# Altium integrated library WE-CBF (rev24a).IntLib: 180 symbols (part 3 of 4)
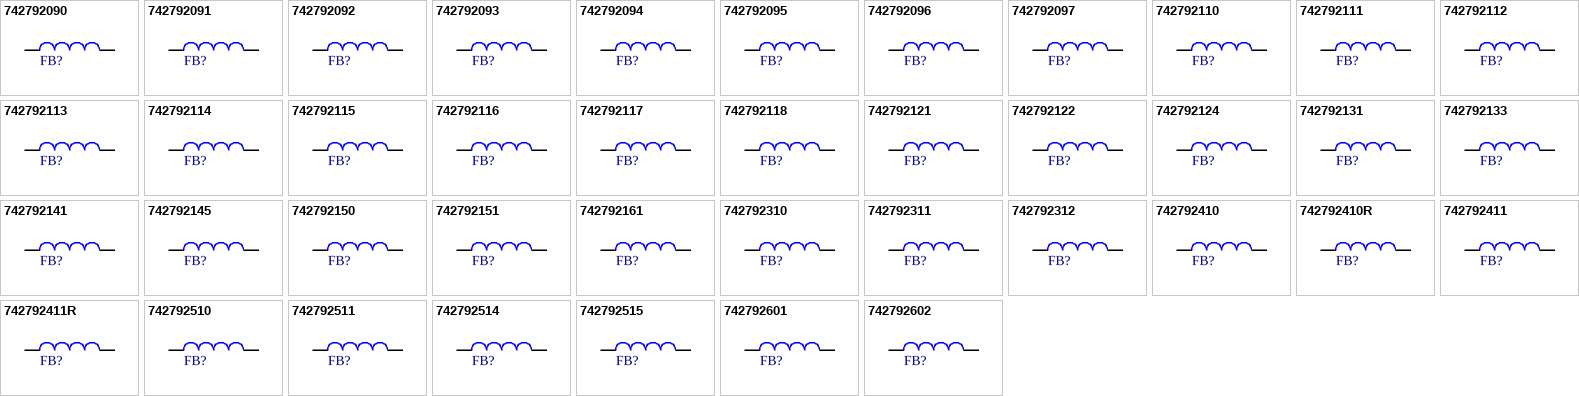
[diagram p6: symbols 742792090 to 742792602]

## 742792311
designator FB?, comment 52Ohm  (value not drawn)
WE-CBF SMT EMI Suppression Ferrite Bead, size 1210, 52Ohm, 3A; Manufacturer Part Number: 742792311; Manufacturer: Wurth Elektronik; Case/Size Code: 1210; DC Resistance Max: 0.05Ohm; Impedance Max: 90Ohm; Impedance Max Test Condition: 1000MHz; Type: High Current; Category: Ferrites for PCB Assembly; Match Code: WE-CBF; ComponentLink1Description: Website Link; ComponentLink1URL: https://www.we-online.com/redexpert/article/742792311?ad; ComponentLink2Description: Datasheet Link; ComponentLink2URL: https://www.we-online.com/redexpert/spec/742792311?ad; Mount: Surface Mount; Operating Temperature Max: 125°C; Operating Temperature Min: -55°C; Packaging: Tape and Reel; Length: 3.2mm; Width: 2.5mm; Height: 1.3mm; Impedance @100MHz: 52Ohm; Rated Current: 3A
footprint WE-CBF_1210_L3.2W2.5H1.3_HC
simulation model 1210_742792311_52ohm
pins: 1, 2

## 742792312
designator FB?, comment 65Ohm  (value not drawn)
WE-CBF SMT EMI Suppression Ferrite Bead, size 1210, 65Ohm, 3A; Manufacturer Part Number: 742792312; Manufacturer: Wurth Elektronik; Case/Size Code: 1210; DC Resistance Max: 0.03Ohm; Impedance Max: 110Ohm; Impedance Max Test Condition: 1000MHz; Type: High Current; Category: Ferrites for PCB Assembly; Match Code: WE-CBF; ComponentLink1Description: Website Link; ComponentLink1URL: https://www.we-online.com/redexpert/article/742792312?ad; ComponentLink2Description: Datasheet Link; ComponentLink2URL: https://www.we-online.com/redexpert/spec/742792312?ad; Mount: Surface Mount; Operating Temperature Max: 125°C; Operating Temperature Min: -55°C; Packaging: Tape and Reel; Length: 3.2mm; Width: 2.5mm; Height: 1.3mm; Impedance @100MHz: 65Ohm; Rated Current: 3A
footprint WE-CBF_1210_L3.2W2.5H1.3_HC
simulation model 1210_742792312_65ohm
pins: 1, 2

## 742792410
designator FB?, comment 60Ohm  (value not drawn)
WE-CBF SMT EMI Suppression Ferrite Bead, size 1806, 60Ohm, 6A; Manufacturer Part Number: 742792410; Manufacturer: Wurth Elektronik; Case/Size Code: 1806; DC Resistance Max: 0.01Ohm; Impedance Max: 120Ohm; Impedance Max Test Condition: 1000MHz; Type: High Current; Category: Ferrites for PCB Assembly; Match Code: WE-CBF; ComponentLink1Description: Website Link; ComponentLink1URL: https://www.we-online.com/redexpert/article/742792410?ad; ComponentLink2Description: Datasheet Link; ComponentLink2URL: https://www.we-online.com/redexpert/spec/742792410?ad; Mount: Surface Mount; Operating Temperature Max: 125°C; Operating Temperature Min: -55°C; Packaging: Tape and Reel; Length: 4.5mm; Width: 1.6mm; Height: 1.6mm; Impedance @100MHz: 60Ohm; Rated Current: 6A
footprint WE-CBF_1806_L4.5W1.6H1.6_HC
simulation model 1806_742792410_60ohm
pins: 1, 2

## 742792410R
designator FB?, comment 60Ohm  (value not drawn)
WE-CBF SMT EMI Suppression Ferrite Bead, size 1806, 60Ohm, 6A; Manufacturer Part Number: 742792410R; Manufacturer: Wurth Elektronik; Case/Size Code: 1806; DC Resistance Max: 0.01Ohm; Impedance Max: 120Ohm; Impedance Max Test Condition: 1000MHz; Type: High Current; Category: Ferrites for PCB Assembly; Match Code: WE-CBF; ComponentLink1Description: Website Link; ComponentLink1URL: https://www.we-online.com/redexpert/article/742792410R?ad; ComponentLink2Description: Datasheet Link; ComponentLink2URL: https://www.we-online.com/redexpert/spec/742792410R?ad; Mount: Surface Mount; Operating Temperature Max: 125°C; Operating Temperature Min: -55°C; Packaging: Tape and Reel; Length: 4.5mm; Width: 1.6mm; Height: 1.6mm; Impedance @100MHz: 60Ohm; Rated Current: 6A
footprint WE-CBF_1806_L4.5W1.6H1.6_HC
pins: 1, 2

## 742792411
designator FB?, comment 80Ohm  (value not drawn)
WE-CBF SMT EMI Suppression Ferrite Bead, size 1806, 80Ohm, 3A; Manufacturer Part Number: 742792411; Manufacturer: Wurth Elektronik; Case/Size Code: 1806; DC Resistance Max: 0.04Ohm; Impedance Max: 140Ohm; Impedance Max Test Condition: 1000MHz; Type: High Current; Category: Ferrites for PCB Assembly; Match Code: WE-CBF; ComponentLink1Description: Website Link; ComponentLink1URL: https://www.we-online.com/redexpert/article/742792411?ad; ComponentLink2Description: Datasheet Link; ComponentLink2URL: https://www.we-online.com/redexpert/spec/742792411?ad; Mount: Surface Mount; Operating Temperature Max: 125°C; Operating Temperature Min: -55°C; Packaging: Tape and Reel; Length: 4.5mm; Width: 1.6mm; Height: 1.6mm; Impedance @100MHz: 80Ohm; Rated Current: 3A
footprint WE-CBF_1806_L4.5W1.6H1.6_HC
simulation model 1806_742792411_80ohm
pins: 1, 2

## 742792411R
designator FB?, comment 80Ohm  (value not drawn)
WE-CBF SMT EMI Suppression Ferrite Bead, size 1806, 80Ohm, 3A; Manufacturer Part Number: 742792411R; Manufacturer: Wurth Elektronik; Case/Size Code: 1806; DC Resistance Max: 0.04Ohm; Impedance Max: 140Ohm; Impedance Max Test Condition: 1000MHz; Type: High Current; Category: Ferrites for PCB Assembly; Match Code: WE-CBF; ComponentLink1Description: Website Link; ComponentLink1URL: https://www.we-online.com/redexpert/article/742792411R?ad; ComponentLink2Description: Datasheet Link; ComponentLink2URL: https://www.we-online.com/redexpert/spec/742792411R?ad; Mount: Surface Mount; Operating Temperature Max: 125°C; Operating Temperature Min: -55°C; Packaging: Tape and Reel; Length: 4.5mm; Width: 1.6mm; Height: 1.6mm; Impedance @100MHz: 80Ohm; Rated Current: 3A
footprint WE-CBF_1806_L4.5W1.6H1.6_HC
pins: 1, 2

## 742792510
designator FB?, comment 70Ohm  (value not drawn)
WE-CBF SMT EMI Suppression Ferrite Bead, size 1812, 70Ohm, 6A; Manufacturer Part Number: 742792510; Manufacturer: Wurth Elektronik; Case/Size Code: 1812; DC Resistance Max: 0.03Ohm; Impedance Max: 120Ohm; Impedance Max Test Condition: 1000MHz; Type: High Current; Category: Ferrites for PCB Assembly; Match Code: WE-CBF; ComponentLink1Description: Website Link; ComponentLink1URL: https://www.we-online.com/redexpert/article/742792510?ad; ComponentLink2Description: Datasheet Link; ComponentLink2URL: https://www.we-online.com/redexpert/spec/742792510?ad; Mount: Surface Mount; Operating Temperature Max: 125°C; Operating Temperature Min: -55°C; Packaging: Tape and Reel; Length: 4.5mm; Width: 3.2mm; Height: 1.5mm; Impedance @100MHz: 70Ohm; Rated Current: 6A
footprint WE-CBF_1812_L4.5W3.2H1.5_HC
simulation model 1812_742792510_70ohm
pins: 1, 2

## 742792511
designator FB?, comment 120Ohm  (value not drawn)
WE-CBF SMT EMI Suppression Ferrite Bead, size 1812, 120Ohm, 3A; Manufacturer Part Number: 742792511; Manufacturer: Wurth Elektronik; Case/Size Code: 1812; DC Resistance Max: 0.05Ohm; Impedance Max: 190Ohm; Impedance Max Test Condition: 600MHz; Type: High Current; Category: Ferrites for PCB Assembly; Match Code: WE-CBF; ComponentLink1Description: Website Link; ComponentLink1URL: https://www.we-online.com/redexpert/article/742792511?ad; ComponentLink2Description: Datasheet Link; ComponentLink2URL: https://www.we-online.com/redexpert/spec/742792511?ad; Mount: Surface Mount; Operating Temperature Max: 125°C; Operating Temperature Min: -55°C; Packaging: Tape and Reel; Length: 4.5mm; Width: 3.2mm; Height: 1.5mm; Impedance @100MHz: 120Ohm; Rated Current: 3A
footprint WE-CBF_1812_L4.5W3.2H1.5_HC
simulation model 1812_742792511_120ohm
pins: 1, 2

## 742792514
designator FB?, comment 600Ohm  (value not drawn)
WE-CBF SMT EMI Suppression Ferrite Bead, size 1812, 600Ohm, 3A; Manufacturer Part Number: 742792514; Manufacturer: Wurth Elektronik; Case/Size Code: 1812; DC Resistance Max: 0.04Ohm; Impedance Max: 900Ohm; Impedance Max Test Condition: 65MHz; Type: High Current; Category: Ferrites for PCB Assembly; Match Code: WE-CBF; ComponentLink1Description: Website Link; ComponentLink1URL: https://www.we-online.com/redexpert/article/742792514?ad; ComponentLink2Description: Datasheet Link; ComponentLink2URL: https://www.we-online.com/redexpert/spec/742792514?ad; Mount: Surface Mount; Operating Temperature Max: 125°C; Operating Temperature Min: -55°C; Packaging: Tape and Reel; Length: 4.5mm; Width: 3.2mm; Height: 1.5mm; Impedance @100MHz: 600Ohm; Rated Current: 3A
footprint WE-CBF_1812_L4.5W3.2H1.5_HC
simulation model 1812_742792514_600ohm
pins: 1, 2

## 742792515
designator FB?, comment 785Ohm  (value not drawn)
WE-CBF SMT EMI Suppression Ferrite Bead, size 1812, 785Ohm, 3A; Manufacturer Part Number: 742792515; Manufacturer: Wurth Elektronik; Case/Size Code: 1812; DC Resistance Max: 0.05Ohm; Impedance Max: 1300Ohm; Impedance Max Test Condition: 60MHz; Type: High Current; Category: Ferrites for PCB Assembly; Match Code: WE-CBF; ComponentLink1Description: Website Link; ComponentLink1URL: https://www.we-online.com/redexpert/article/742792515?ad; ComponentLink2Description: Datasheet Link; ComponentLink2URL: https://www.we-online.com/redexpert/spec/742792515?ad; Mount: Surface Mount; Operating Temperature Max: 125°C; Operating Temperature Min: -55°C; Packaging: Tape and Reel; Length: 4.5mm; Width: 3.2mm; Height: 1.5mm; Impedance @100MHz: 785Ohm; Rated Current: 3A
footprint WE-CBF_1812_L4.5W3.2H1.5_HC
simulation model 1812_742792515_785ohm
pins: 1, 2

## 742792601
designator FB?, comment 30Ohm  (value not drawn)
WE-CBF SMT EMI Suppression Ferrite Bead, size 0603, 30Ohm, 1A; Manufacturer Part Number: 742792601; Manufacturer: Wurth Elektronik; Case/Size Code: 0603; DC Resistance Max: 0.03Ohm; Impedance Max: 65Ohm; Impedance Max Test Condition: 1000MHz; Type: High Current; Category: Ferrites for PCB Assembly; Match Code: WE-CBF; ComponentLink1Description: Website Link; ComponentLink1URL: https://www.we-online.com/redexpert/article/742792601?ad; ComponentLink2Description: Datasheet Link; ComponentLink2URL: https://www.we-online.com/redexpert/spec/742792601?ad; Mount: Surface Mount; Operating Temperature Max: 125°C; Operating Temperature Min: -55°C; Packaging: Tape and Reel; Length: 1.6mm; Width: 0.8mm; Height: 0.8mm; Impedance @100MHz: 30Ohm; Rated Current: 1A
footprint WE-CBF_0603_L1.6W0.8H0.8_HC
simulation model 0603_742792601_30ohm
pins: 1, 2

## 742792602
designator FB?, comment 60Ohm  (value not drawn)
WE-CBF SMT EMI Suppression Ferrite Bead, size 0603, 60Ohm, 3A; Manufacturer Part Number: 742792602; Manufacturer: Wurth Elektronik; Case/Size Code: 0603; DC Resistance Max: 0.04Ohm; Impedance Max: 110Ohm; Impedance Max Test Condition: 600MHz; Type: High Current; Category: Ferrites for PCB Assembly; Match Code: WE-CBF; ComponentLink1Description: Website Link; ComponentLink1URL: https://www.we-online.com/redexpert/article/742792602?ad; ComponentLink2Description: Datasheet Link; ComponentLink2URL: https://www.we-online.com/redexpert/spec/742792602?ad; Mount: Surface Mount; Operating Temperature Max: 125°C; Operating Temperature Min: -55°C; Packaging: Tape and Reel; Length: 1.6mm; Width: 0.8mm; Height: 0.8mm; Impedance @100MHz: 60Ohm; Rated Current: 3A
footprint WE-CBF_0603_L1.6W0.8H0.8_HC
simulation model 0603_742792602_60ohm
pins: 1, 2

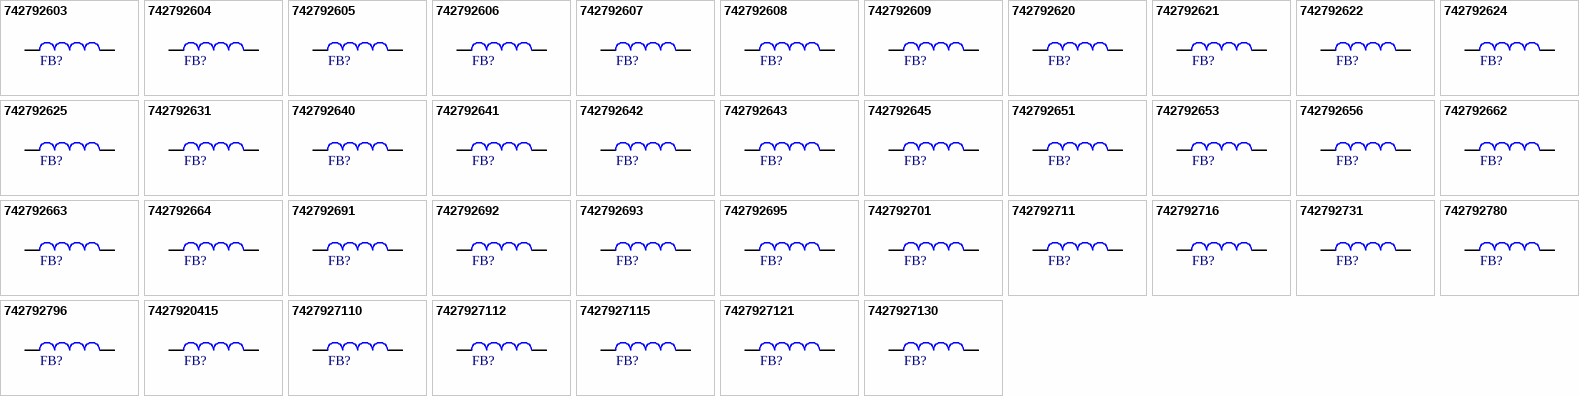
[diagram p3: symbols 742792603 to 7427927130]

## 742792603
designator FB?, comment 28Ohm  (value not drawn)
WE-CBF SMT EMI Suppression Ferrite Bead, size 0603, 28Ohm, 4A; Manufacturer Part Number: 742792603; Manufacturer: Wurth Elektronik; Case/Size Code: 0603; DC Resistance Max: 0.03Ohm; Impedance Max: 45Ohm; Impedance Max Test Condition: 1000MHz; Type: High Current; Category: Ferrites for PCB Assembly; Match Code: WE-CBF; ComponentLink1Description: Website Link; ComponentLink1URL: https://www.we-online.com/redexpert/article/742792603?ad; ComponentLink2Description: Datasheet Link; ComponentLink2URL: https://www.we-online.com/redexpert/spec/742792603?ad; Mount: Surface Mount; Operating Temperature Max: 125°C; Operating Temperature Min: -55°C; Packaging: Tape and Reel; Length: 1.6mm; Width: 0.8mm; Height: 0.8mm; Impedance @100MHz: 28Ohm; Rated Current: 4A
footprint WE-CBF_0603_L1.6W0.8H0.8_HC
simulation model 0603_742792603_28ohm
pins: 1, 2

## 742792604
designator FB?, comment 22Ohm  (value not drawn)
WE-CBF SMT EMI Suppression Ferrite Bead, size 0603, 22Ohm, 1A; Manufacturer Part Number: 742792604; Manufacturer: Wurth Elektronik; Case/Size Code: 0603; DC Resistance Max: 0.05Ohm; Impedance Max: 40Ohm; Impedance Max Test Condition: 1000MHz; Type: High Current; Category: Ferrites for PCB Assembly; Match Code: WE-CBF; ComponentLink1Description: Website Link; ComponentLink1URL: https://www.we-online.com/redexpert/article/742792604?ad; ComponentLink2Description: Datasheet Link; ComponentLink2URL: https://www.we-online.com/redexpert/spec/742792604?ad; Mount: Surface Mount; Operating Temperature Max: 125°C; Operating Temperature Min: -55°C; Packaging: Tape and Reel; Length: 1.6mm; Width: 0.8mm; Height: 0.8mm; Impedance @100MHz: 22Ohm; Rated Current: 1A
footprint WE-CBF_0603_L1.6W0.8H0.8_HC
simulation model 0603_742792604_22ohm
pins: 1, 2

## 742792605
designator FB?, comment 33Ohm  (value not drawn)
WE-CBF SMT EMI Suppression Ferrite Bead, size 0603, 33Ohm, 2.2A; Manufacturer Part Number: 742792605; Manufacturer: Wurth Elektronik; Case/Size Code: 0603; DC Resistance Max: 0.1Ohm; Impedance Max: 50Ohm; Impedance Max Test Condition: 1000MHz; Type: High Speed; Category: Ferrites for PCB Assembly; Match Code: WE-CBF; ComponentLink1Description: Website Link; ComponentLink1URL: https://www.we-online.com/redexpert/article/742792605?ad; ComponentLink2Description: Datasheet Link; ComponentLink2URL: https://www.we-online.com/redexpert/spec/742792605?ad; Mount: Surface Mount; Operating Temperature Max: 125°C; Operating Temperature Min: -55°C; Packaging: Tape and Reel; Length: 1.6mm; Width: 0.8mm; Height: 0.8mm; Impedance @100MHz: 33Ohm; Rated Current: 2.2A
footprint WE-CBF_0603_L1.6W0.8H0.8_HS/WB
simulation model 0603_742792605_33ohm
pins: 1, 2

## 742792606
designator FB?, comment 120Ohm  (value not drawn)
WE-CBF SMT EMI Suppression Ferrite Bead, size 0603, 120Ohm, 1.6A; Manufacturer Part Number: 742792606; Manufacturer: Wurth Elektronik; Case/Size Code: 0603; DC Resistance Max: 0.35Ohm; Impedance Max: 388Ohm; Impedance Max Test Condition: 550MHz; Type: High Speed; Category: Ferrites for PCB Assembly; Match Code: WE-CBF; ComponentLink1Description: Website Link; ComponentLink1URL: https://www.we-online.com/redexpert/article/742792606?ad; ComponentLink2Description: Datasheet Link; ComponentLink2URL: https://www.we-online.com/redexpert/spec/742792606?ad; Mount: Surface Mount; Operating Temperature Max: 125°C; Operating Temperature Min: -55°C; Packaging: Tape and Reel; Length: 1.6mm; Width: 0.8mm; Height: 0.8mm; Impedance @100MHz: 120Ohm; Rated Current: 1.6A
footprint WE-CBF_0603_L1.6W0.8H0.8_HS/WB
simulation model 0603_742792606_120ohm
pins: 1, 2

## 742792607
designator FB?, comment 68Ohm  (value not drawn)
WE-CBF SMT EMI Suppression Ferrite Bead, size 0603, 68Ohm, 1.7A; Manufacturer Part Number: 742792607; Manufacturer: Wurth Elektronik; Case/Size Code: 0603; DC Resistance Max: 0.3Ohm; Impedance Max: 284Ohm; Impedance Max Test Condition: 800MHz; Type: High Speed; Category: Ferrites for PCB Assembly; Match Code: WE-CBF; ComponentLink1Description: Website Link; ComponentLink1URL: https://www.we-online.com/redexpert/article/742792607?ad; ComponentLink2Description: Datasheet Link; ComponentLink2URL: https://www.we-online.com/redexpert/spec/742792607?ad; Mount: Surface Mount; Operating Temperature Max: 125°C; Operating Temperature Min: -55°C; Packaging: Tape and Reel; Length: 1.6mm; Width: 0.8mm; Height: 0.8mm; Impedance @100MHz: 68Ohm; Rated Current: 1.7A
footprint WE-CBF_0603_L1.6W0.8H0.8_HS/WB
simulation model 0603_742792607_68ohm
pins: 1, 2

## 742792608
designator FB?, comment 47Ohm  (value not drawn)
WE-CBF SMT EMI Suppression Ferrite Bead, size 0603, 47Ohm, 1.3A; Manufacturer Part Number: 742792608; Manufacturer: Wurth Elektronik; Case/Size Code: 0603; DC Resistance Max: 0.1Ohm; Impedance Max: 75Ohm; Impedance Max Test Condition: 1000MHz; Type: High Speed; Category: Ferrites for PCB Assembly; Match Code: WE-CBF; ComponentLink1Description: Website Link; ComponentLink1URL: https://www.we-online.com/redexpert/article/742792608?ad; ComponentLink2Description: Datasheet Link; ComponentLink2URL: https://www.we-online.com/redexpert/spec/742792608?ad; Mount: Surface Mount; Operating Temperature Max: 125°C; Operating Temperature Min: -55°C; Packaging: Tape and Reel; Length: 1.6mm; Width: 0.8mm; Height: 0.8mm; Impedance @100MHz: 47Ohm; Rated Current: 1.3A
footprint WE-CBF_0603_L1.6W0.8H0.8_HS/WB
simulation model 0603_742792608_47ohm
pins: 1, 2

## 742792609
designator FB?, comment 30Ohm  (value not drawn)
WE-CBF SMT EMI Suppression Ferrite Bead, size 0603, 30Ohm, 3A; Manufacturer Part Number: 742792609; Manufacturer: Wurth Elektronik; Case/Size Code: 0603; DC Resistance Max: 0.04Ohm; Impedance Max: 40Ohm; Impedance Max Test Condition: 1000MHz; Type: High Current; Category: Ferrites for PCB Assembly; Match Code: WE-CBF; ComponentLink1Description: Website Link; ComponentLink1URL: https://www.we-online.com/redexpert/article/742792609?ad; ComponentLink2Description: Datasheet Link; ComponentLink2URL: https://www.we-online.com/redexpert/spec/742792609?ad; Mount: Surface Mount; Operating Temperature Max: 125°C; Operating Temperature Min: -55°C; Packaging: Tape and Reel; Length: 1.6mm; Width: 0.8mm; Height: 0.8mm; Impedance @100MHz: 30Ohm; Rated Current: 3A
footprint WE-CBF_0603_L1.6W0.8H0.8_HC
simulation model 0603_742792609_30ohm
pins: 1, 2

## 742792620
designator FB?, comment 100Ohm  (value not drawn)
WE-CBF SMT EMI Suppression Ferrite Bead, size 0603, 100Ohm, 1.65A; Manufacturer Part Number: 742792620; Manufacturer: Wurth Elektronik; Case/Size Code: 0603; DC Resistance Max: 0.15Ohm; Impedance Max: 125Ohm; Impedance Max Test Condition: 450MHz; Type: Wide Band; Category: Ferrites for PCB Assembly; Match Code: WE-CBF; ComponentLink1Description: Website Link; ComponentLink1URL: https://www.we-online.com/redexpert/article/742792620?ad; ComponentLink2Description: Datasheet Link; ComponentLink2URL: https://www.we-online.com/redexpert/spec/742792620?ad; Mount: Surface Mount; Operating Temperature Max: 125°C; Operating Temperature Min: -55°C; Packaging: Tape and Reel; Length: 1.6mm; Width: 0.8mm; Height: 0.8mm; Impedance @100MHz: 100Ohm; Rated Current: 1.65A
footprint WE-CBF_0603_L1.6W0.8H0.8_HS/WB
simulation model 0603_742792620_100ohm
pins: 1, 2

## 742792621
designator FB?, comment 140Ohm  (value not drawn)
WE-CBF SMT EMI Suppression Ferrite Bead, size 0603, 140Ohm, 1.25A; Manufacturer Part Number: 742792621; Manufacturer: Wurth Elektronik; Case/Size Code: 0603; DC Resistance Max: 0.2Ohm; Impedance Max: 430Ohm; Impedance Max Test Condition: 550MHz; Type: High Speed; Category: Ferrites for PCB Assembly; Match Code: WE-CBF; ComponentLink1Description: Website Link; ComponentLink1URL: https://www.we-online.com/redexpert/article/742792621?ad; ComponentLink2Description: Datasheet Link; ComponentLink2URL: https://www.we-online.com/redexpert/spec/742792621?ad; Mount: Surface Mount; Operating Temperature Max: 125°C; Operating Temperature Min: -55°C; Packaging: Tape and Reel; Length: 1.6mm; Width: 0.8mm; Height: 0.8mm; Impedance @100MHz: 140Ohm; Rated Current: 1.25A
footprint WE-CBF_0603_L1.6W0.8H0.8_HS/WB
simulation model 0603_742792621_140ohm
pins: 1, 2

## 742792622
designator FB?, comment 180Ohm  (value not drawn)
WE-CBF SMT EMI Suppression Ferrite Bead, size 0603, 180Ohm, 1.5A; Manufacturer Part Number: 742792622; Manufacturer: Wurth Elektronik; Case/Size Code: 0603; DC Resistance Max: 0.3Ohm; Impedance Max: 283Ohm; Impedance Max Test Condition: 410MHz; Type: Wide Band; Category: Ferrites for PCB Assembly; Match Code: WE-CBF; ComponentLink1Description: Website Link; ComponentLink1URL: https://www.we-online.com/redexpert/article/742792622?ad; ComponentLink2Description: Datasheet Link; ComponentLink2URL: https://www.we-online.com/redexpert/spec/742792622?ad; Mount: Surface Mount; Operating Temperature Max: 125°C; Operating Temperature Min: -55°C; Packaging: Tape and Reel; Length: 1.6mm; Width: 0.8mm; Height: 0.8mm; Impedance @100MHz: 180Ohm; Rated Current: 1.5A
footprint WE-CBF_0603_L1.6W0.8H0.8_HS/WB
simulation model 0603_742792622_180ohm
pins: 1, 2

## 742792624
designator FB?, comment 180Ohm  (value not drawn)
WE-CBF SMT EMI Suppression Ferrite Bead, size 0603, 180Ohm, 1.5A; Manufacturer Part Number: 742792624; Manufacturer: Wurth Elektronik; Case/Size Code: 0603; DC Resistance Max: 0.09Ohm; Impedance Max: 250Ohm; Impedance Max Test Condition: 400MHz; Type: High Current; Category: Ferrites for PCB Assembly; Match Code: WE-CBF; ComponentLink1Description: Website Link; ComponentLink1URL: https://www.we-online.com/redexpert/article/742792624?ad; ComponentLink2Description: Datasheet Link; ComponentLink2URL: https://www.we-online.com/redexpert/spec/742792624?ad; Mount: Surface Mount; Operating Temperature Max: 125°C; Operating Temperature Min: -55°C; Packaging: Tape and Reel; Length: 1.6mm; Width: 0.8mm; Height: 0.8mm; Impedance @100MHz: 180Ohm; Rated Current: 1.5A
footprint WE-CBF_0603_L1.6W0.8H0.8_HC
simulation model 0603_742792624_180ohm
pins: 1, 2

## 742792625
designator FB?, comment 120Ohm  (value not drawn)
WE-CBF SMT EMI Suppression Ferrite Bead, size 0603, 120Ohm, 2A; Manufacturer Part Number: 742792625; Manufacturer: Wurth Elektronik; Case/Size Code: 0603; DC Resistance Max: 0.05Ohm; Impedance Max: 180Ohm; Impedance Max Test Condition: 400MHz; Type: High Current; Category: Ferrites for PCB Assembly; Match Code: WE-CBF; ComponentLink1Description: Website Link; ComponentLink1URL: https://www.we-online.com/redexpert/article/742792625?ad; ComponentLink2Description: Datasheet Link; ComponentLink2URL: https://www.we-online.com/redexpert/spec/742792625?ad; Mount: Surface Mount; Operating Temperature Max: 125°C; Operating Temperature Min: -55°C; Packaging: Tape and Reel; Length: 1.6mm; Width: 0.8mm; Height: 0.8mm; Impedance @100MHz: 120Ohm; Rated Current: 2A
footprint WE-CBF_0603_L1.6W0.8H0.8_HC
simulation model 0603_742792625_120ohm
pins: 1, 2

## 742792631
designator FB?, comment 240Ohm  (value not drawn)
WE-CBF SMT EMI Suppression Ferrite Bead, size 0603, 240Ohm, 1.8A; Manufacturer Part Number: 742792631; Manufacturer: Wurth Elektronik; Case/Size Code: 0603; DC Resistance Max: 0.4Ohm; Impedance Max: 340Ohm; Impedance Max Test Condition: 375MHz; Type: Wide Band; Category: Ferrites for PCB Assembly; Match Code: WE-CBF; ComponentLink1Description: Website Link; ComponentLink1URL: https://www.we-online.com/redexpert/article/742792631?ad; ComponentLink2Description: Datasheet Link; ComponentLink2URL: https://www.we-online.com/redexpert/spec/742792631?ad; Mount: Surface Mount; Operating Temperature Max: 125°C; Operating Temperature Min: -55°C; Packaging: Tape and Reel; Length: 1.6mm; Width: 0.8mm; Height: 0.8mm; Impedance @100MHz: 240Ohm; Rated Current: 1.8A
footprint WE-CBF_0603_L1.6W0.8H0.8_HS/WB
simulation model 0603_742792631_240ohm
pins: 1, 2

## 742792640
designator FB?, comment 300Ohm  (value not drawn)
WE-CBF SMT EMI Suppression Ferrite Bead, size 0603, 300Ohm, 0.75A; Manufacturer Part Number: 742792640; Manufacturer: Wurth Elektronik; Case/Size Code: 0603; DC Resistance Max: 0.35Ohm; Impedance Max: 1500Ohm; Impedance Max Test Condition: 250MHz; Type: High Speed; Category: Ferrites for PCB Assembly; Match Code: WE-CBF; ComponentLink1Description: Website Link; ComponentLink1URL: https://www.we-online.com/redexpert/article/742792640?ad; ComponentLink2Description: Datasheet Link; ComponentLink2URL: https://www.we-online.com/redexpert/spec/742792640?ad; Mount: Surface Mount; Operating Temperature Max: 125°C; Operating Temperature Min: -55°C; Packaging: Tape and Reel; Length: 1.6mm; Width: 0.8mm; Height: 0.8mm; Impedance @100MHz: 300Ohm; Rated Current: 0.75A
footprint WE-CBF_0603_L1.6W0.8H0.8_HS/WB
simulation model 0603_742792640_300ohm
pins: 1, 2

## 742792641
designator FB?, comment 300Ohm  (value not drawn)
WE-CBF SMT EMI Suppression Ferrite Bead, size 0603, 300Ohm, 2A; Manufacturer Part Number: 742792641; Manufacturer: Wurth Elektronik; Case/Size Code: 0603; DC Resistance Max: 0.15Ohm; Impedance Max: 450Ohm; Impedance Max Test Condition: 250MHz; Type: High Current; Category: Ferrites for PCB Assembly; Match Code: WE-CBF; ComponentLink1Description: Website Link; ComponentLink1URL: https://www.we-online.com/redexpert/article/742792641?ad; ComponentLink2Description: Datasheet Link; ComponentLink2URL: https://www.we-online.com/redexpert/spec/742792641?ad; Mount: Surface Mount; Operating Temperature Max: 125°C; Operating Temperature Min: -55°C; Packaging: Tape and Reel; Length: 1.6mm; Width: 0.8mm; Height: 0.8mm; Impedance @100MHz: 300Ohm; Rated Current: 2A
footprint WE-CBF_0603_L1.6W0.8H0.8_HC
simulation model 0603_742792641_300ohm
pins: 1, 2

## 742792642
designator FB?, comment 470Ohm  (value not drawn)
WE-CBF SMT EMI Suppression Ferrite Bead, size 0603, 470Ohm, 0.95A; Manufacturer Part Number: 742792642; Manufacturer: Wurth Elektronik; Case/Size Code: 0603; DC Resistance Max: 0.45Ohm; Impedance Max: 780Ohm; Impedance Max Test Condition: 300MHz; Type: Wide Band; Category: Ferrites for PCB Assembly; Match Code: WE-CBF; ComponentLink1Description: Website Link; ComponentLink1URL: https://www.we-online.com/redexpert/article/742792642?ad; ComponentLink2Description: Datasheet Link; ComponentLink2URL: https://www.we-online.com/redexpert/spec/742792642?ad; Mount: Surface Mount; Operating Temperature Max: 125°C; Operating Temperature Min: -55°C; Packaging: Tape and Reel; Length: 1.6mm; Width: 0.8mm; Height: 0.8mm; Impedance @100MHz: 470Ohm; Rated Current: 0.95A
footprint WE-CBF_0603_L1.6W0.8H0.8_HS/WB
simulation model 0603_742792642_470ohm
pins: 1, 2

## 742792643
designator FB?, comment 470Ohm  (value not drawn)
WE-CBF SMT EMI Suppression Ferrite Bead, size 0603, 470Ohm, 0.73A; Manufacturer Part Number: 742792643; Manufacturer: Wurth Elektronik; Case/Size Code: 0603; DC Resistance Max: 0.35Ohm; Impedance Max: 700Ohm; Impedance Max Test Condition: 250MHz; Type: High Speed; Category: Ferrites for PCB Assembly; Match Code: WE-CBF; ComponentLink1Description: Website Link; ComponentLink1URL: https://www.we-online.com/redexpert/article/742792643?ad; ComponentLink2Description: Datasheet Link; ComponentLink2URL: https://www.we-online.com/redexpert/spec/742792643?ad; Mount: Surface Mount; Operating Temperature Max: 125°C; Operating Temperature Min: -55°C; Packaging: Tape and Reel; Length: 1.6mm; Width: 0.8mm; Height: 0.8mm; Impedance @100MHz: 470Ohm; Rated Current: 0.73A
footprint WE-CBF_0603_L1.6W0.8H0.8_HS/WB
simulation model 0603_742792643_470ohm
pins: 1, 2

## 742792645
designator FB?, comment 470Ohm  (value not drawn)
WE-CBF SMT EMI Suppression Ferrite Bead, size 0603, 470Ohm, 1A; Manufacturer Part Number: 742792645; Manufacturer: Wurth Elektronik; Case/Size Code: 0603; DC Resistance Max: 0.2Ohm; Impedance Max: 600Ohm; Impedance Max Test Condition: 230MHz; Type: High Current; Category: Ferrites for PCB Assembly; Match Code: WE-CBF; ComponentLink1Description: Website Link; ComponentLink1URL: https://www.we-online.com/redexpert/article/742792645?ad; ComponentLink2Description: Datasheet Link; ComponentLink2URL: https://www.we-online.com/redexpert/spec/742792645?ad; Mount: Surface Mount; Operating Temperature Max: 125°C; Operating Temperature Min: -55°C; Packaging: Tape and Reel; Length: 1.6mm; Width: 0.8mm; Height: 0.8mm; Impedance @100MHz: 470Ohm; Rated Current: 1A
footprint WE-CBF_0603_L1.6W0.8H0.8_HC
simulation model 0603_742792645_470ohm
pins: 1, 2

## 742792651
designator FB?, comment 600Ohm  (value not drawn)
WE-CBF SMT EMI Suppression Ferrite Bead, size 0603, 600Ohm, 1A; Manufacturer Part Number: 742792651; Manufacturer: Wurth Elektronik; Case/Size Code: 0603; DC Resistance Max: 0.2Ohm; Impedance Max: 800Ohm; Impedance Max Test Condition: 200MHz; Type: High Current; Category: Ferrites for PCB Assembly; Match Code: WE-CBF; ComponentLink1Description: Website Link; ComponentLink1URL: https://www.we-online.com/redexpert/article/742792651?ad; ComponentLink2Description: Datasheet Link; ComponentLink2URL: https://www.we-online.com/redexpert/spec/742792651?ad; Mount: Surface Mount; Operating Temperature Max: 125°C; Operating Temperature Min: -55°C; Packaging: Tape and Reel; Length: 1.6mm; Width: 0.8mm; Height: 0.8mm; Impedance @100MHz: 600Ohm; Rated Current: 1A
footprint WE-CBF_0603_L1.6W0.8H0.8_HC
simulation model 0603_742792651_600ohm
pins: 1, 2

## 742792653
designator FB?, comment 600Ohm  (value not drawn)
WE-CBF SMT EMI Suppression Ferrite Bead, size 0603, 600Ohm, 0.5A; Manufacturer Part Number: 742792653; Manufacturer: Wurth Elektronik; Case/Size Code: 0603; DC Resistance Max: 0.65Ohm; Impedance Max: 4500Ohm; Impedance Max Test Condition: 200MHz; Type: High Speed; Category: Ferrites for PCB Assembly; Match Code: WE-CBF; ComponentLink1Description: Website Link; ComponentLink1URL: https://www.we-online.com/redexpert/article/742792653?ad; ComponentLink2Description: Datasheet Link; ComponentLink2URL: https://www.we-online.com/redexpert/spec/742792653?ad; Mount: Surface Mount; Operating Temperature Max: 125°C; Operating Temperature Min: -55°C; Packaging: Tape and Reel; Length: 1.6mm; Width: 0.8mm; Height: 0.8mm; Impedance @100MHz: 600Ohm; Rated Current: 0.5A
footprint WE-CBF_0603_L1.6W0.8H0.8_HS/WB
simulation model 0603_742792653_600ohm
pins: 1, 2

## 742792656
designator FB?, comment 750Ohm  (value not drawn)
WE-CBF SMT EMI Suppression Ferrite Bead, size 0603, 750Ohm, 0.9A; Manufacturer Part Number: 742792656; Manufacturer: Wurth Elektronik; Case/Size Code: 0603; DC Resistance Max: 0.35Ohm; Impedance Max: 800Ohm; Impedance Max Test Condition: 150MHz; Type: Wide Band; Category: Ferrites for PCB Assembly; Match Code: WE-CBF; ComponentLink1Description: Website Link; ComponentLink1URL: https://www.we-online.com/redexpert/article/742792656?ad; ComponentLink2Description: Datasheet Link; ComponentLink2URL: https://www.we-online.com/redexpert/spec/742792656?ad; Mount: Surface Mount; Operating Temperature Max: 125°C; Operating Temperature Min: -55°C; Packaging: Tape and Reel; Length: 1.6mm; Width: 0.8mm; Height: 0.8mm; Impedance @100MHz: 750Ohm; Rated Current: 0.9A
footprint WE-CBF_0603_L1.6W0.8H0.8_HS/WB
simulation model 0603_742792656_750ohm
pins: 1, 2

## 742792662
designator FB?, comment 1000Ohm  (value not drawn)
WE-CBF SMT EMI Suppression Ferrite Bead, size 0603, 1000Ohm, 0.83A; Manufacturer Part Number: 742792662; Manufacturer: Wurth Elektronik; Case/Size Code: 0603; DC Resistance Max: 0.3Ohm; Impedance Max: 1050Ohm; Impedance Max Test Condition: 120MHz; Type: Wide Band; Category: Ferrites for PCB Assembly; Match Code: WE-CBF; ComponentLink1Description: Website Link; ComponentLink1URL: https://www.we-online.com/redexpert/article/742792662?ad; ComponentLink2Description: Datasheet Link; ComponentLink2URL: https://www.we-online.com/redexpert/spec/742792662?ad; Mount: Surface Mount; Operating Temperature Max: 125°C; Operating Temperature Min: -55°C; Packaging: Tape and Reel; Length: 1.6mm; Width: 0.8mm; Height: 0.8mm; Impedance @100MHz: 1000Ohm; Rated Current: 0.83A
footprint WE-CBF_0603_L1.6W0.8H0.8_HS/WB
simulation model 0603_742792662_1000ohm
pins: 1, 2

## 742792663
designator FB?, comment 1000Ohm  (value not drawn)
WE-CBF SMT EMI Suppression Ferrite Bead, size 0603, 1000Ohm, 0.65A; Manufacturer Part Number: 742792663; Manufacturer: Wurth Elektronik; Case/Size Code: 0603; DC Resistance Max: 0.85Ohm; Impedance Max: 1100Ohm; Impedance Max Test Condition: 150MHz; Type: Wide Band; Category: Ferrites for PCB Assembly; Match Code: WE-CBF; ComponentLink1Description: Website Link; ComponentLink1URL: https://www.we-online.com/redexpert/article/742792663?ad; ComponentLink2Description: Datasheet Link; ComponentLink2URL: https://www.we-online.com/redexpert/spec/742792663?ad; Mount: Surface Mount; Operating Temperature Max: 125°C; Operating Temperature Min: -55°C; Packaging: Tape and Reel; Length: 1.6mm; Width: 0.8mm; Height: 0.8mm; Impedance @100MHz: 1000Ohm; Rated Current: 0.65A
footprint WE-CBF_0603_L1.6W0.8H0.8_HS/WB
simulation model 0603_742792663_1000ohm
pins: 1, 2

## 742792664
designator FB?, comment 1000Ohm  (value not drawn)
WE-CBF SMT EMI Suppression Ferrite Bead, size 0603, 1000Ohm, 0.68A; Manufacturer Part Number: 742792664; Manufacturer: Wurth Elektronik; Case/Size Code: 0603; DC Resistance Max: 0.6Ohm; Impedance Max: 1100Ohm; Impedance Max Test Condition: 120MHz; Type: High Speed; Category: Ferrites for PCB Assembly; Match Code: WE-CBF; ComponentLink1Description: Website Link; ComponentLink1URL: https://www.we-online.com/redexpert/article/742792664?ad; ComponentLink2Description: Datasheet Link; ComponentLink2URL: https://www.we-online.com/redexpert/spec/742792664?ad; Mount: Surface Mount; Operating Temperature Max: 125°C; Operating Temperature Min: -55°C; Packaging: Tape and Reel; Length: 1.6mm; Width: 0.8mm; Height: 0.8mm; Impedance @100MHz: 1000Ohm; Rated Current: 0.68A
footprint WE-CBF_0603_L1.6W0.8H0.8_HS/WB
simulation model 0603_742792664_1000ohm
pins: 1, 2

## 742792691
designator FB?, comment 1500Ohm  (value not drawn)
WE-CBF SMT EMI Suppression Ferrite Bead, size 0603, 1500Ohm, 0.65A; Manufacturer Part Number: 742792691; Manufacturer: Wurth Elektronik; Case/Size Code: 0603; DC Resistance Max: 0.7Ohm; Impedance Max: 1900Ohm; Impedance Max Test Condition: 140MHz; Type: Wide Band; Category: Ferrites for PCB Assembly; Match Code: WE-CBF; ComponentLink1Description: Website Link; ComponentLink1URL: https://www.we-online.com/redexpert/article/742792691?ad; ComponentLink2Description: Datasheet Link; ComponentLink2URL: https://www.we-online.com/redexpert/spec/742792691?ad; Mount: Surface Mount; Operating Temperature Max: 125°C; Operating Temperature Min: -55°C; Packaging: Tape and Reel; Length: 1.6mm; Width: 0.8mm; Height: 0.8mm; Impedance @100MHz: 1500Ohm; Rated Current: 0.65A
footprint WE-CBF_0603_L1.6W0.8H0.8_HS/WB
simulation model 0603_742792691_1500ohm
pins: 1, 2

## 742792692
designator FB?, comment 1800Ohm  (value not drawn)
WE-CBF SMT EMI Suppression Ferrite Bead, size 0603, 1800Ohm, 0.5A; Manufacturer Part Number: 742792692; Manufacturer: Wurth Elektronik; Case/Size Code: 0603; DC Resistance Max: 0.8Ohm; Impedance Max: 2100Ohm; Impedance Max Test Condition: 130MHz; Type: Wide Band; Category: Ferrites for PCB Assembly; Match Code: WE-CBF; ComponentLink1Description: Website Link; ComponentLink1URL: https://www.we-online.com/redexpert/article/742792692?ad; ComponentLink2Description: Datasheet Link; ComponentLink2URL: https://www.we-online.com/redexpert/spec/742792692?ad; Mount: Surface Mount; Operating Temperature Max: 125°C; Operating Temperature Min: -55°C; Packaging: Tape and Reel; Length: 1.6mm; Width: 0.8mm; Height: 0.8mm; Impedance @100MHz: 1800Ohm; Rated Current: 0.5A
footprint WE-CBF_0603_L1.6W0.8H0.8_HS/WB
simulation model 0603_742792692_1800ohm
pins: 1, 2

## 742792693
designator FB?, comment 2200Ohm  (value not drawn)
WE-CBF SMT EMI Suppression Ferrite Bead, size 0603, 2200Ohm, 0.5A; Manufacturer Part Number: 742792693; Manufacturer: Wurth Elektronik; Case/Size Code: 0603; DC Resistance Max: 0.8Ohm; Impedance Max: 2250Ohm; Impedance Max Test Condition: 110MHz; Type: Wide Band; Category: Ferrites for PCB Assembly; Match Code: WE-CBF; ComponentLink1Description: Website Link; ComponentLink1URL: https://www.we-online.com/redexpert/article/742792693?ad; ComponentLink2Description: Datasheet Link; ComponentLink2URL: https://www.we-online.com/redexpert/spec/742792693?ad; Mount: Surface Mount; Operating Temperature Max: 125°C; Operating Temperature Min: -55°C; Packaging: Tape and Reel; Length: 1.6mm; Width: 0.8mm; Height: 0.8mm; Impedance @100MHz: 2200Ohm; Rated Current: 0.5A
footprint WE-CBF_0603_L1.6W0.8H0.8_HS/WB
simulation model 0603_742792693_2200ohm
pins: 1, 2

## 742792695
designator FB?, comment 2500Ohm  (value not drawn)
WE-CBF SMT EMI Suppression Ferrite Bead, size 0603, 2500Ohm, 0.45A; Manufacturer Part Number: 742792695; Manufacturer: Wurth Elektronik; Case/Size Code: 0603; DC Resistance Max: 1Ohm; Impedance Max: 3000Ohm; Impedance Max Test Condition: 80MHz; Type: Wide Band; Category: Ferrites for PCB Assembly; Match Code: WE-CBF; ComponentLink1Description: Website Link; ComponentLink1URL: https://www.we-online.com/redexpert/article/742792695?ad; ComponentLink2Description: Datasheet Link; ComponentLink2URL: https://www.we-online.com/redexpert/spec/742792695?ad; Mount: Surface Mount; Operating Temperature Max: 125°C; Operating Temperature Min: -55°C; Packaging: Tape and Reel; Length: 1.6mm; Width: 0.8mm; Height: 0.8mm; Impedance @100MHz: 2500Ohm; Rated Current: 0.45A
footprint WE-CBF_0603_L1.6W0.8H0.8_HS/WB
simulation model 0603_742792695_2500ohm
pins: 1, 2

## 742792701
designator FB?, comment 10Ohm  (value not drawn)
WE-CBF SMT EMI Suppression Ferrite Bead, size 0402, 10Ohm, 3.5A; Manufacturer Part Number: 742792701; Manufacturer: Wurth Elektronik; Case/Size Code: 0402; DC Resistance Max: 0.05Ohm; Impedance Max: 16Ohm; Impedance Max Test Condition: 1000MHz; Type: Wide Band; Category: Ferrites for PCB Assembly; Match Code: WE-CBF; ComponentLink1Description: Website Link; ComponentLink1URL: https://www.we-online.com/redexpert/article/742792701?ad; ComponentLink2Description: Datasheet Link; ComponentLink2URL: https://www.we-online.com/redexpert/spec/742792701?ad; Mount: Surface Mount; Operating Temperature Max: 125°C; Operating Temperature Min: -55°C; Packaging: Tape and Reel; Length: 1mm; Width: 0.5mm; Height: 0.5mm; Impedance @100MHz: 10Ohm; Rated Current: 3.5A
footprint WE-CBF_0402_L1W0.5H0.5_HS/WB
simulation model 0402_742792701_10ohm
pins: 1, 2

## 742792711
designator FB?, comment 100Ohm  (value not drawn)
WE-CBF SMT EMI Suppression Ferrite Bead, size 0402, 100Ohm, 0.87A; Manufacturer Part Number: 742792711; Manufacturer: Wurth Elektronik; Case/Size Code: 0402; DC Resistance Max: 0.3Ohm; Impedance Max: 200Ohm; Impedance Max Test Condition: 800MHz; Type: High Speed; Category: Ferrites for PCB Assembly; Match Code: WE-CBF; ComponentLink1Description: Website Link; ComponentLink1URL: https://www.we-online.com/redexpert/article/742792711?ad; ComponentLink2Description: Datasheet Link; ComponentLink2URL: https://www.we-online.com/redexpert/spec/742792711?ad; Mount: Surface Mount; Operating Temperature Max: 125°C; Operating Temperature Min: -55°C; Packaging: Tape and Reel; Length: 1mm; Width: 0.5mm; Height: 0.5mm; Impedance @100MHz: 100Ohm; Rated Current: 0.87A
footprint WE-CBF_0402_L1W0.5H0.5_HS/WB
simulation model 0402_742792711_100ohm
pins: 1, 2

## 742792716
designator FB?, comment 60Ohm  (value not drawn)
WE-CBF SMT EMI Suppression Ferrite Bead, size 0402, 60Ohm, 1.2A; Manufacturer Part Number: 742792716; Manufacturer: Wurth Elektronik; Case/Size Code: 0402; DC Resistance Max: 0.25Ohm; Impedance Max: 150Ohm; Impedance Max Test Condition: 1000MHz; Type: High Speed; Category: Ferrites for PCB Assembly; Match Code: WE-CBF; ComponentLink1Description: Website Link; ComponentLink1URL: https://www.we-online.com/redexpert/article/742792716?ad; ComponentLink2Description: Datasheet Link; ComponentLink2URL: https://www.we-online.com/redexpert/spec/742792716?ad; Mount: Surface Mount; Operating Temperature Max: 125°C; Operating Temperature Min: -55°C; Packaging: Tape and Reel; Length: 1mm; Width: 0.5mm; Height: 0.5mm; Impedance @100MHz: 60Ohm; Rated Current: 1.2A
footprint WE-CBF_0402_L1W0.5H0.5_HS/WB
simulation model 0402_742792716_60ohm
pins: 1, 2

## 742792731
designator FB?, comment 100Ohm  (value not drawn)
WE-CBF SMT EMI Suppression Ferrite Bead, size 0402, 100Ohm, 1.2A; Manufacturer Part Number: 742792731; Manufacturer: Wurth Elektronik; Case/Size Code: 0402; DC Resistance Max: 0.09Ohm; Impedance Max: 140Ohm; Impedance Max Test Condition: 600MHz; Type: High Current; Category: Ferrites for PCB Assembly; Match Code: WE-CBF; ComponentLink1Description: Website Link; ComponentLink1URL: https://www.we-online.com/redexpert/article/742792731?ad; ComponentLink2Description: Datasheet Link; ComponentLink2URL: https://www.we-online.com/redexpert/spec/742792731?ad; Mount: Surface Mount; Operating Temperature Max: 125°C; Operating Temperature Min: -55°C; Packaging: Tape and Reel; Length: 1mm; Width: 0.5mm; Height: 0.5mm; Impedance @100MHz: 100Ohm; Rated Current: 1.2A
footprint WE-CBF_0402_L1W0.5H0.5_HC
simulation model 0402_742792731_100ohm
pins: 1, 2

## 742792780
designator FB?, comment 220Ohm  (value not drawn)
WE-CBF SMT EMI Suppression Ferrite Bead, size 0402, 220Ohm, 0.9A; Manufacturer Part Number: 742792780; Manufacturer: Wurth Elektronik; Case/Size Code: 0402; DC Resistance Max: 0.35Ohm; Impedance Max: 360Ohm; Impedance Max Test Condition: 450MHz; Type: Wide Band; Category: Ferrites for PCB Assembly; Match Code: WE-CBF; ComponentLink1Description: Website Link; ComponentLink1URL: https://www.we-online.com/redexpert/article/742792780?ad; ComponentLink2Description: Datasheet Link; ComponentLink2URL: https://www.we-online.com/redexpert/spec/742792780?ad; Mount: Surface Mount; Operating Temperature Max: 125°C; Operating Temperature Min: -55°C; Packaging: Tape and Reel; Length: 1mm; Width: 0.5mm; Height: 0.5mm; Impedance @100MHz: 220Ohm; Rated Current: 0.9A
footprint WE-CBF_0402_L1W0.5H0.5_HS/WB
simulation model 0402_742792780_220ohm
pins: 1, 2

## 742792796
designator FB?, comment 1000Ohm  (value not drawn)
WE-CBF SMT EMI Suppression Ferrite Bead, size 0402, 1000Ohm, 0.55A; Manufacturer Part Number: 742792796; Manufacturer: Wurth Elektronik; Case/Size Code: 0402; DC Resistance Max: 1.5Ohm; Impedance Max: 1200Ohm; Impedance Max Test Condition: 200MHz; Type: Wide Band; Category: Ferrites for PCB Assembly; Match Code: WE-CBF; ComponentLink1Description: Website Link; ComponentLink1URL: https://www.we-online.com/redexpert/article/742792796?ad; ComponentLink2Description: Datasheet Link; ComponentLink2URL: https://www.we-online.com/redexpert/spec/742792796?ad; Mount: Surface Mount; Operating Temperature Max: 125°C; Operating Temperature Min: -55°C; Packaging: Tape and Reel; Length: 1mm; Width: 0.5mm; Height: 0.5mm; Impedance @100MHz: 1000Ohm; Rated Current: 0.55A
footprint WE-CBF_0402_L1W0.5H0.5_HS/WB
simulation model 0402_742792796_1000ohm
pins: 1, 2

## 7427920415
designator FB?, comment 600Ohm  (value not drawn)
WE-CBF SMT EMI Suppression Ferrite Bead, size 0805, 600Ohm, 1.5A; Manufacturer Part Number: 7427920415; Manufacturer: Wurth Elektronik; Case/Size Code: 0805; DC Resistance Max: 0.3Ohm; Impedance Max: 660Ohm; Impedance Max Test Condition: 150MHz; Type: Wide Band; Category: Ferrites for PCB Assembly; Match Code: WE-CBF; ComponentLink1Description: Website Link; ComponentLink1URL: https://www.we-online.com/redexpert/article/7427920415?ad; ComponentLink2Description: Datasheet Link; ComponentLink2URL: https://www.we-online.com/redexpert/spec/7427920415?ad; Mount: Surface Mount; Operating Temperature Max: 125°C; Operating Temperature Min: -55°C; Packaging: Tape and Reel; Length: 2mm; Width: 1.2mm; Height: 0.9mm; Impedance @100MHz: 600Ohm; Rated Current: 1.5A
footprint WE-CBF_0805_L2W1.2H0.9_HS/WB
simulation model 0805_7427920415_600ohm
pins: 1, 2

## 7427927110
designator FB?, comment 10Ohm  (value not drawn)
WE-CBF SMT EMI Suppression Ferrite Bead, size 0402, 10Ohm, 2.8A; Manufacturer Part Number: 7427927110; Manufacturer: Wurth Elektronik; Case/Size Code: 0402; DC Resistance Max: 0.05Ohm; Impedance Max: 15Ohm; Impedance Max Test Condition: 1000MHz; Type: High Speed; Category: Ferrites for PCB Assembly; Match Code: WE-CBF; ComponentLink1Description: Website Link; ComponentLink1URL: https://www.we-online.com/redexpert/article/7427927110?ad; ComponentLink2Description: Datasheet Link; ComponentLink2URL: https://www.we-online.com/redexpert/spec/7427927110?ad; Mount: Surface Mount; Operating Temperature Max: 125°C; Operating Temperature Min: -55°C; Packaging: Tape and Reel; Length: 1mm; Width: 0.5mm; Height: 0.5mm; Impedance @100MHz: 10Ohm; Rated Current: 2.8A
footprint WE-CBF_0402_L1W0.5H0.5_HS/WB
simulation model 0402_7427927110_10ohm
pins: 1, 2

## 7427927112
designator FB?, comment 120Ohm  (value not drawn)
WE-CBF SMT EMI Suppression Ferrite Bead, size 0402, 120Ohm, 0.71A; Manufacturer Part Number: 7427927112; Manufacturer: Wurth Elektronik; Case/Size Code: 0402; DC Resistance Max: 0.35Ohm; Impedance Max: 900Ohm; Impedance Max Test Condition: 500MHz; Type: High Speed; Category: Ferrites for PCB Assembly; Match Code: WE-CBF; ComponentLink1Description: Website Link; ComponentLink1URL: https://www.we-online.com/redexpert/article/7427927112?ad; ComponentLink2Description: Datasheet Link; ComponentLink2URL: https://www.we-online.com/redexpert/spec/7427927112?ad; Mount: Surface Mount; Operating Temperature Max: 125°C; Operating Temperature Min: -55°C; Packaging: Tape and Reel; Length: 1mm; Width: 0.5mm; Height: 0.5mm; Impedance @100MHz: 120Ohm; Rated Current: 0.71A
footprint WE-CBF_0402_L1W0.5H0.5_HS/WB
simulation model 0402_7427927112_120ohm
pins: 1, 2

## 7427927115
designator FB?, comment 150Ohm  (value not drawn)
WE-CBF SMT EMI Suppression Ferrite Bead, size 0402, 150Ohm, 0.9A; Manufacturer Part Number: 7427927115; Manufacturer: Wurth Elektronik; Case/Size Code: 0402; DC Resistance Max: 0.4Ohm; Impedance Max: 300Ohm; Impedance Max Test Condition: 500MHz; Type: High Speed; Category: Ferrites for PCB Assembly; Match Code: WE-CBF; ComponentLink1Description: Website Link; ComponentLink1URL: https://www.we-online.com/redexpert/article/7427927115?ad; ComponentLink2Description: Datasheet Link; ComponentLink2URL: https://www.we-online.com/redexpert/spec/7427927115?ad; Mount: Surface Mount; Operating Temperature Max: 125°C; Operating Temperature Min: -55°C; Packaging: Tape and Reel; Length: 1mm; Width: 0.5mm; Height: 0.5mm; Impedance @100MHz: 150Ohm; Rated Current: 0.9A
footprint WE-CBF_0402_L1W0.5H0.5_HS/WB
simulation model 0402_7427927115_150ohm
pins: 1, 2

## 7427927121
designator FB?, comment 220Ohm  (value not drawn)
WE-CBF SMT EMI Suppression Ferrite Bead, size 0402, 220Ohm, 0.5A; Manufacturer Part Number: 7427927121; Manufacturer: Wurth Elektronik; Case/Size Code: 0402; DC Resistance Max: 0.8Ohm; Impedance Max: 1300Ohm; Impedance Max Test Condition: 350MHz; Type: High Speed; Category: Ferrites for PCB Assembly; Match Code: WE-CBF; ComponentLink1Description: Website Link; ComponentLink1URL: https://www.we-online.com/redexpert/article/7427927121?ad; ComponentLink2Description: Datasheet Link; ComponentLink2URL: https://www.we-online.com/redexpert/spec/7427927121?ad; Mount: Surface Mount; Operating Temperature Max: 125°C; Operating Temperature Min: -55°C; Packaging: Tape and Reel; Length: 1mm; Width: 0.5mm; Height: 0.5mm; Impedance @100MHz: 220Ohm; Rated Current: 0.5A
footprint WE-CBF_0402_L1W0.5H0.5_HS/WB
simulation model 0402_7427927121_220ohm
pins: 1, 2

## 7427927130
designator FB?, comment 30Ohm  (value not drawn)
WE-CBF SMT EMI Suppression Ferrite Bead, size 0402, 30Ohm, 1.35A; Manufacturer Part Number: 7427927130; Manufacturer: Wurth Elektronik; Case/Size Code: 0402; DC Resistance Max: 0.15Ohm; Impedance Max: 110Ohm; Impedance Max Test Condition: 1500MHz; Type: High Speed; Category: Ferrites for PCB Assembly; Match Code: WE-CBF; ComponentLink1Description: Website Link; ComponentLink1URL: https://www.we-online.com/redexpert/article/7427927130?ad; ComponentLink2Description: Datasheet Link; ComponentLink2URL: https://www.we-online.com/redexpert/spec/7427927130?ad; Mount: Surface Mount; Operating Temperature Max: 125°C; Operating Temperature Min: -55°C; Packaging: Tape and Reel; Length: 1mm; Width: 0.5mm; Height: 0.5mm; Impedance @100MHz: 30Ohm; Rated Current: 1.35A
footprint WE-CBF_0402_L1W0.5H0.5_HS/WB
simulation model 0402_7427927130_30ohm
pins: 1, 2

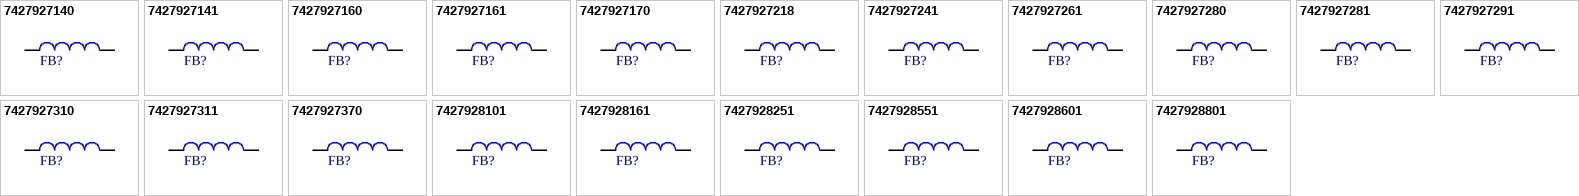
[diagram p4: symbols 7427927140 to 7427928801]

## 7427927140
designator FB?, comment 47Ohm  (value not drawn)
WE-CBF SMT EMI Suppression Ferrite Bead, size 0402, 47Ohm, 1.1A; Manufacturer Part Number: 7427927140; Manufacturer: Wurth Elektronik; Case/Size Code: 0402; DC Resistance Max: 0.4Ohm; Impedance Max: 71Ohm; Impedance Max Test Condition: 800MHz; Type: High Speed; Category: Ferrites for PCB Assembly; Match Code: WE-CBF; ComponentLink1Description: Website Link; ComponentLink1URL: https://www.we-online.com/redexpert/article/7427927140?ad; ComponentLink2Description: Datasheet Link; ComponentLink2URL: https://www.we-online.com/redexpert/spec/7427927140?ad; Mount: Surface Mount; Operating Temperature Max: 125°C; Operating Temperature Min: -55°C; Packaging: Tape and Reel; Length: 1mm; Width: 0.5mm; Height: 0.5mm; Impedance @100MHz: 47Ohm; Rated Current: 1.1A
footprint WE-CBF_0402_L1W0.5H0.5_HS/WB
simulation model 0402_7427927140_47ohm
pins: 1, 2

## 7427927141
designator FB?, comment 470Ohm  (value not drawn)
WE-CBF SMT EMI Suppression Ferrite Bead, size 0402, 470Ohm, 0.62A; Manufacturer Part Number: 7427927141; Manufacturer: Wurth Elektronik; Case/Size Code: 0402; DC Resistance Max: 0.45Ohm; Impedance Max: 1200Ohm; Impedance Max Test Condition: 300MHz; Type: High Speed; Category: Ferrites for PCB Assembly; Match Code: WE-CBF; ComponentLink1Description: Website Link; ComponentLink1URL: https://www.we-online.com/redexpert/article/7427927141?ad; ComponentLink2Description: Datasheet Link; ComponentLink2URL: https://www.we-online.com/redexpert/spec/7427927141?ad; Mount: Surface Mount; Operating Temperature Max: 125°C; Operating Temperature Min: -55°C; Packaging: Tape and Reel; Length: 1mm; Width: 0.5mm; Height: 0.5mm; Impedance @100MHz: 470Ohm; Rated Current: 0.62A
footprint WE-CBF_0402_L1W0.5H0.5_HS/WB
simulation model 0402_7427927141_470ohm
pins: 1, 2